# EAGLE library part 6111-B (library subminiature_audio_vacuum_tubes)
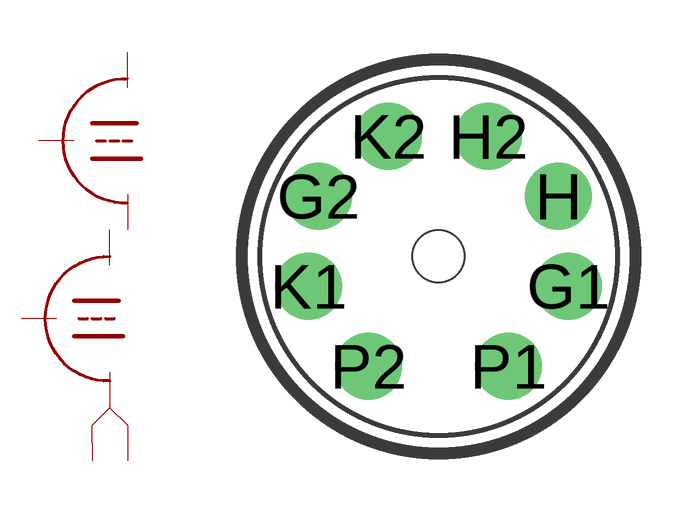
[diagram p1: symbol with the pads of SUB-MINI-OCTAL-PCB; footprint SUB-MINI-OCTAL-PCB]

Designator prefix -; gates G$1=DOUBLE-TRIODE-MB G$2=DOUBLE-TRIODE-MB G$3=HEATERS

## 6111-B  [SUB-MINI-OCTAL-PCB]
G1  G$1:GRID
G2  G$2:GRID
H  G$3:3
H2  G$3:6
K1  G$1:CATHODE
K2  G$2:CATHODE
P1  G$1:PLATE
P2  G$2:PLATE

## Footprint SUB-MINI-OCTAL-PCB (pad centres in mm)
Subminiature Octal Tube Socket Cinch or similar, pcb
drill 0.9 pad 1.676 round: G1 3.25,-0.75; G2 -3,1.5; H 3,1.5; H2 1.25,3; K1 -3.25,-0.75; K2 -1.25,3; P1 1.75,-2.75; P2 -1.75,-2.75
hole 1.3 at 0,0